# EAGLE library part MAX21000 (library Mine)
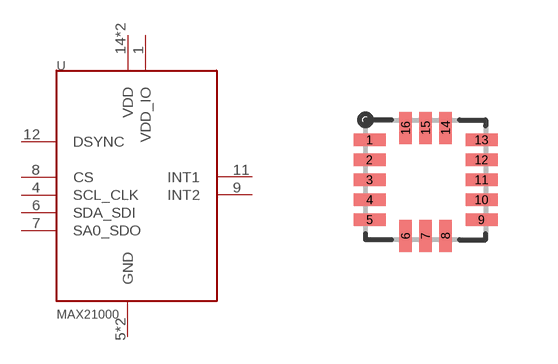
[diagram p61: symbol with the pads of LGA16; footprint LGA16]

Designator prefix -

## MAX21000  [LGA16]
1  VDD_IO  pwr
4  SCL_CLK  in
5  GND  pwr
6  SDA_SDI
7  SA0_SDO
8  CS  in
9  INT2  out
10  GND  pwr
11  INT1  out
12  DSYNC  in
14  VDD  pwr
15  VDD  pwr

## Footprint LGA16 (pad centres in mm)
smd 0.8 x 0.323: 1 -1.4,1; 2 -1.4,0.5; 3 -1.4,0; 4 -1.4,-0.5; 5 -1.4,-1; 9 1.4,-1; 10 1.4,-0.5; 11 1.4,0; 12 1.4,0.5; 13 1.4,1
smd 0.323 x 0.8: 6 -0.5,-1.4; 7 0,-1.4; 8 0.5,-1.4; 14 0.5,1.3; 15 0,1.3; 16 -0.5,1.3